# Altium footprint library connectors.PcbLib: 5 footprints
Each footprint in its own frame and in the unit in brackets; x right, y up, seen from the top. Pads: shape width x height; smd on the part's side, far side on the other; paste and mask are expansions set on the pad; w line width, h text height; cw(c..) or ccw(c..) is an arc to the next point about the centre after c.
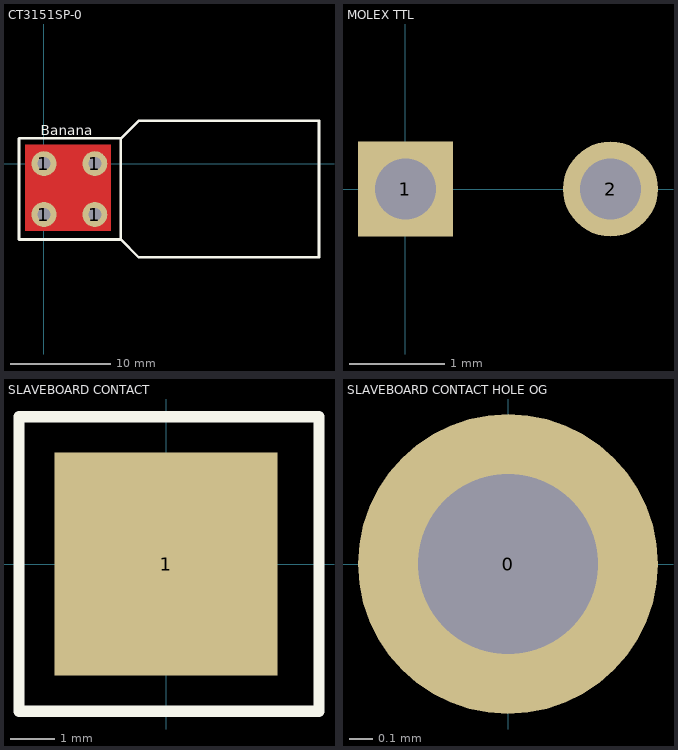
[diagram p0: the footprints below, top view; thin cyan lines are the x and y axes]

## CT3151SP-0 [mm]
height 19.5
pads (4):
  round 2.5 hole 1.3: 1(0,-5.1) 1(0,0) 1(5.1,-5.1) 1(5.1,0)
Top Layer:
  rectangle: -1.905,-6.731 6.731,1.905
Top Overlay:
  lines w0.254: -2.5,2.5 -2.5,-7.6 7.7,-7.6 ; -2.453,2.54 7.747,2.54 ; 7.7,-7.6 7.7,2.5 7.707,2.5 9.525,4.318 27.559,4.318 27.559,-9.398 9.498,-9.398 7.7,-7.6
  text "Banana" at -0.308,2.867 h1

## MOLEX TTL [mm]
pads (2):
  rect 1x1 hole 0.643 paste-2539.97: 1(0,0)
  round 1 hole 0.643 paste-2539.97: 2(2.159,0)

## SLAVEBOARD CONTACT [mm]
pads (1):
  rect 5x5 smd: 1(0,0)
Top Overlay:
  lines w0.254: -3.302,-3.302 3.429,-3.302 3.429,3.302 -3.302,3.302 -3.302,-3.302

## SLAVEBOARD CONTACT HOLE OG [mil] "original through hole for pin contact"
pads (1):
  round 50 hole 30: 0(0,0)

## TEMPBANANA [mm] "placeholder for pcb design; connect to the 4 padded CT3151SP-0 design in the pcb editor"